# Altium footprint library 729-3640.PCBLIB: 1 footprints
Each footprint in its own frame and in the unit in brackets; x right, y up, seen from the top. Pads: shape width x height; smd on the part's side, far side on the other; paste and mask are expansions set on the pad; w line width, h text height; cw(c..) or ccw(c..) is an arc to the next point about the centre after c.
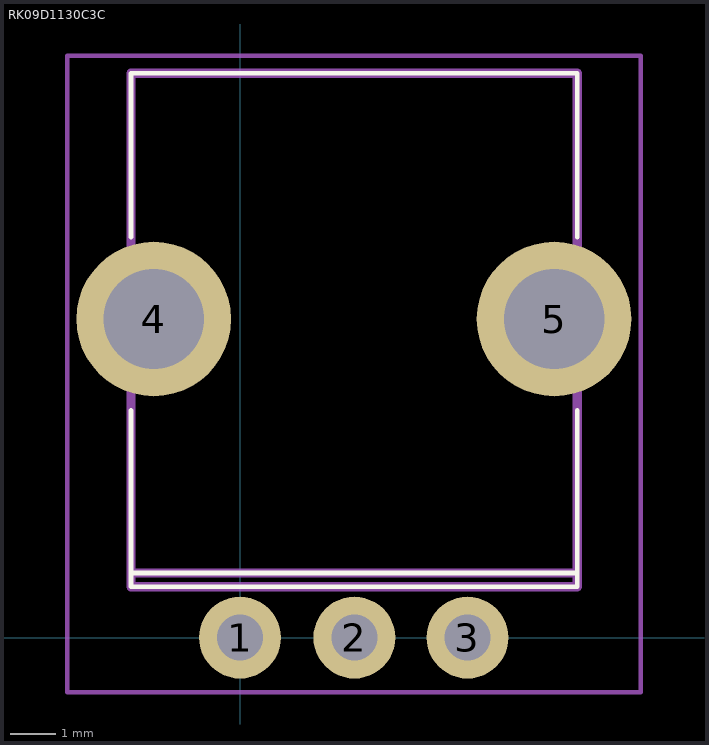
[diagram p0: the footprint, top view; thin cyan lines are the x and y axes]

## RK09D1130C3C [mil]
pads (5):
  round 71 hole 40: 1(0,0) 2(99,0) 3(197,0)
  round 134 hole 87: 4(-74.8,276) 5(272,276)
Top Overlay:
  lines w4: -94.49,56 292,56 ; -94.49,197 -94.49,44 292,44 292,197 ; -94.49,347 -94.49,489 292,489 292,347
Courtyard Bottom:
  lines w4: -149.61,-47.24 347,-47.24 347,504 -149.61,504 -149.61,-47.24
  lines w8: 292,60 292,44 -94.49,44 -94.49,56 ; -94.49,56 292,56 292,489 -94.49,489 -94.49,56